# EAGLE library part LINKMAN-3008S-8810 (library con-rj45)
Mod. Jack, Right Angle, 8 posiotion, 8 contatcs RJ45 Source: GLX-S-88M.pdf
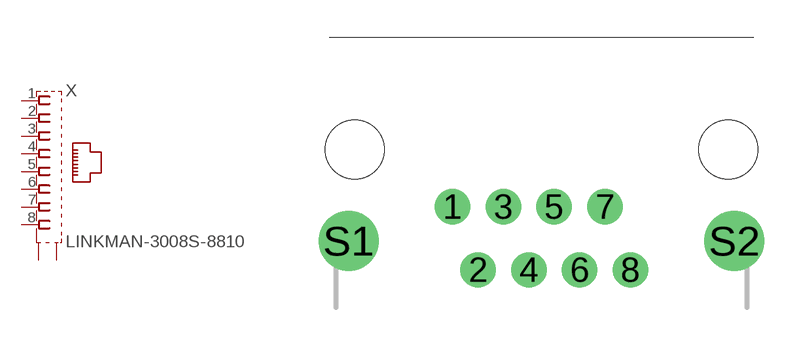
[diagram p0: symbol with the pads of LINKMAN-3008S-8810-FOOTPRINT; footprint LINKMAN-3008S-8810-FOOTPRINT]

Designator prefix X

## LINKMAN-3008S-8810  [LINKMAN-3008S-8810-FOOTPRINT]
1  1  pas
2  2  pas
3  3  pas
4  4  pas
5  5  pas
6  6  pas
7  7  pas
8  8  pas
S1  S1  pas
S2  S2  pas

## Footprint LINKMAN-3008S-8810-FOOTPRINT (pad centres in mm)
Mod. Jack, Right Angle, 8 posiotion, 8 contatcs RJ45
drill 0.9 pad 1.422: 1 -3.57,-2.3; 2 -2.55,-4.84; 3 -1.53,-2.3; 4 -0.51,-4.84; 5 0.51,-2.3; 6 1.53,-4.84; 7 2.55,-2.3; 8 3.57,-4.84
drill 1.6 pad 2.184: S1 -7.75,-3.68; S2 7.75,-3.68
hole 2.36 at -7.5,0
hole 2.36 at 7.5,0